# EAGLE library part AY-3-8912-DIP (library ay-3-8912)
Classic sound chip from the 80's Used in the Oric-1, Oric Atmos, Amstrad CPC's, some MSX's, Spectrum 128k machines etc.
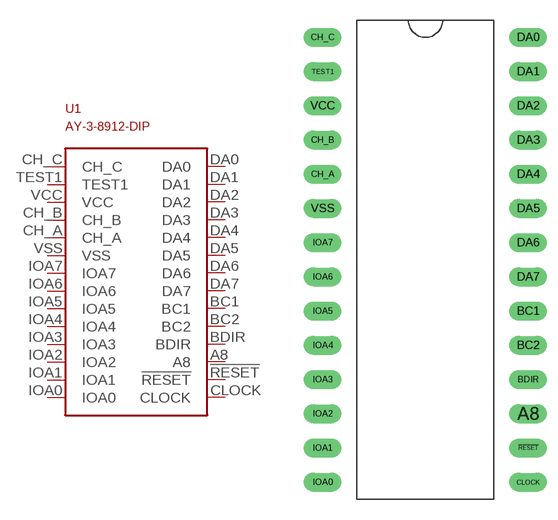
[diagram p0: symbol with the pads of DIP; footprint DIP]

Designator prefix U1

## AY-3-8912-DIP  [DIP]
!RESET  !RESET  in
A8  A8  in
BC1  BC1  in
BC2  BC2  in
BDIR  BDIR  in
CH_A  CH_A  out
CH_B  CH_B  out
CH_C  CH_C  out
CLOCK  CLOCK  in
DA0  DA0
DA1  DA1
DA2  DA2
DA3  DA3
DA4  DA4
DA5  DA5
DA6  DA6
DA7  DA7
IOA0  IOA0
IOA1  IOA1
IOA2  IOA2
IOA3  IOA3
IOA4  IOA4
IOA5  IOA5
IOA6  IOA6
IOA7  IOA7
TEST1  TEST1  nc
VCC  VCC  sup
VSS  VSS  sup

## Footprint DIP (pad centres in mm)
drill 0.9 long: !RESET 7.62,-15.24; A8 7.62,-12.7; BC1 7.62,-5.08; BC2 7.62,-7.62; BDIR 7.62,-10.16; CH_A -7.62,5.08; CH_B -7.62,7.62; CH_C -7.62,15.24; CLOCK 7.62,-17.78; DA0 7.62,15.24; DA1 7.62,12.7; DA2 7.62,10.16; DA3 7.62,7.62; DA4 7.62,5.08; DA5 7.62,2.54; DA6 7.62,0; DA7 7.62,-2.54; IOA0 -7.62,-17.78; IOA1 -7.62,-15.24; IOA2 -7.62,-12.7; IOA3 -7.62,-10.16; IOA4 -7.62,-7.62; IOA5 -7.62,-5.08; IOA6 -7.62,-2.54; IOA7 -7.62,0; TEST1 -7.62,12.7; VCC -7.62,10.16; VSS -7.62,2.54